# Altium footprint library dfe.PcbLib: 1 footprints
Each footprint in its own frame and in the unit in brackets; x right, y up, seen from the top. Pads: shape width x height; smd on the part's side, far side on the other; paste and mask are expansions set on the pad; w line width, h text height; cw(c..) or ccw(c..) is an arc to the next point about the centre after c.
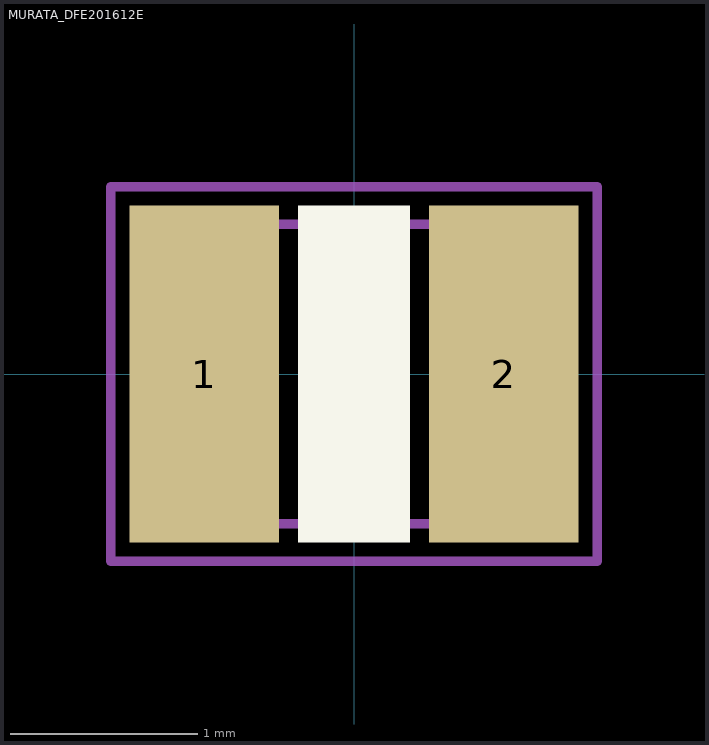
[diagram p0: the footprint, top view; thin cyan lines are the x and y axes]

## MURATA_DFE201612E [mm]
pads (2):
  rect 0.8x1.8 smd: 1(-0.8,0) 2(0.8,0)
Top Overlay:
  rectangle: -0.3,-0.9 0.3,0.9
Top 3D Body:
  lines w0.05: -1,-0.8 -1,0.8 1.011,0.8 1.011,-0.8 -1,-0.8
Top Courtyard:
  lines w0.05: -1.3,-1 -1.3,1 1.3,1 1.3,-1 -1.3,-1
Top Designator:
  text ".Designator" at -0.889,-0.127 h0.4
3D body: height 1.75, standoff 0, extent -1,-0.8 -0.5,0.8
3D body: height 1.75, standoff 0, extent 0.5,-0.8 1,0.8
3D body: height 1.75, standoff 0, extent -0.5,-0.8 0.5,0.8